# Altium schematic symbol library CRCW060322K1FKEB.SchLib: 1 symbol
Pins are listed as number, name and electrical type; pins without a type are passive.

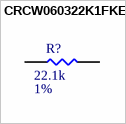
[diagram p0: symbol CRCW060322K1FKEB]

## CRCW060322K1FKEB
designator R?  Tolerance: 1%  Resistance: 22.1k  (hidden comment: CRCW060322K1FKEB)
Thick Film Resistors - SMD 1/10watt 22.1Kohms 1%; MFR: Vishay; Qualifications: AEC-Q200; PN: CRCW060322K1FKEB; ComponentLink1Description: Datasheet; ComponentLink1URL: https://www.mouser.ca/datasheet/2/427/dcrcwe3-1762152.pdf; Footprint: RES0603; Package: 0603; Supplier 1: Mouser; Supplier Part Number 1: 71-CRCW060322K1FKEB
footprint RES0603 (Generic 0603)
pins: 1, 2